# EAGLE library part S10B-XH (library con-JST)
JST XH series header 2.50mm pitch disconnectable crimp style connectors, horizontal (side entry type), 10 pins
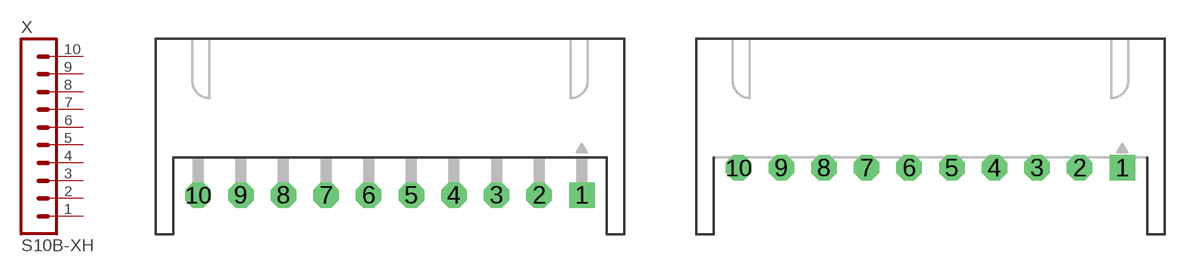
[diagram p16: symbol with the pads of S10B-XH-A; footprints S10B-XH-A, S10B-XH-A-1]

Designator prefix X

## S10B-XH-A  [S10B-XH-A]
1  1  pas
2  2  pas
3  3  pas
4  4  pas
5  5  pas
6  6  pas
7  7  pas
8  8  pas
9  9  pas
10  10  pas

## S10B-XH-A-1  [S10B-XH-A-1]
Pads as for S10B-XH-A

## Footprint S10B-XH-A (pad centres in mm)
JST XH series header 2.50mm pitch disconnectable crimp style connectors, horizontal (side entry type), 10 pins
drill 0.9 pad 1.5 square: 1 11.25,0
drill 0.9 pad 1.5 octagon: 2 8.75,0; 3 6.25,0; 4 3.75,0; 5 1.25,0; 6 -1.25,0; 7 -3.75,0; 8 -6.25,0; 9 -8.75,0; 10 -11.25,0

## Footprint S10B-XH-A-1 (pad centres in mm)
JST XH series header 2.50mm pitch disconnectable crimp style connectors, horizontal (side entry type), 10 pins
drill 0.9 pad 1.5 square: 1 11.25,0
drill 0.9 pad 1.5 octagon: 2 8.75,0; 3 6.25,0; 4 3.75,0; 5 1.25,0; 6 -1.25,0; 7 -3.75,0; 8 -6.25,0; 9 -8.75,0; 10 -11.25,0